# EAGLE library part CC8520 (library LPRF_Chipcon)
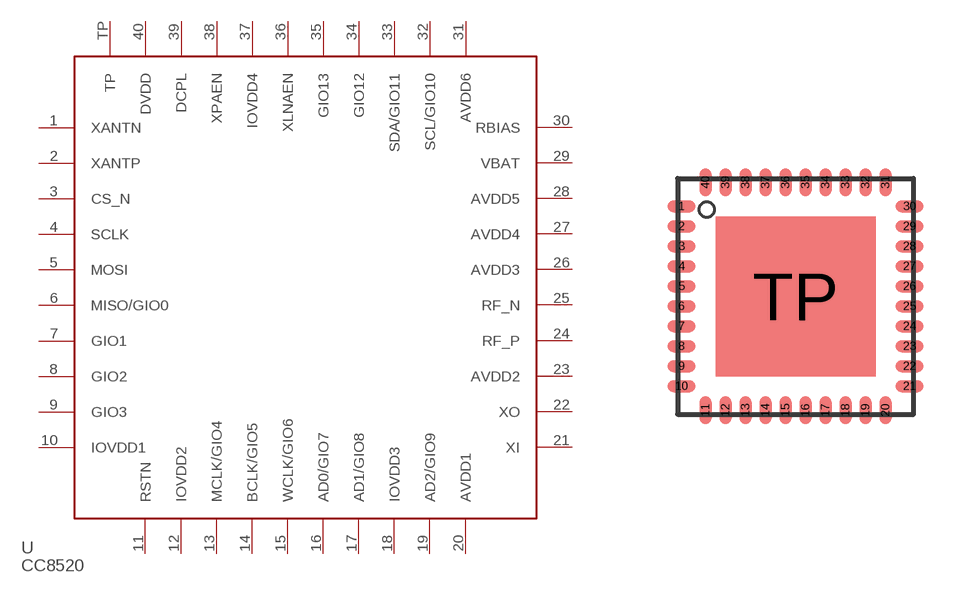
[diagram p0: symbol with the pads of RHA40; footprint RHA40]

Designator prefix -

## CC8520  [RHA40]
1  XANTN
2  XANTP
3  CS_N  in
4  SCLK
5  MOSI
6  MISO/GIO0
7  GIO1
8  GIO2
9  GIO3
10  IOVDD1  pwr
11  RSTN  in
12  IOVDD2  pwr
13  MCLK/GIO4
14  BCLK/GIO5
15  WCLK/GIO6
16  AD0/GIO7
17  AD1/GIO8
18  IOVDD3  pwr
19  AD2/GIO9
20  AVDD1  pwr
21  XI
22  XO
23  AVDD2  pwr
24  RF_P
25  RF_N
26  AVDD3  pwr
27  AVDD4  pwr
28  AVDD5  pwr
29  VBAT  in
30  RBIAS  out
31  AVDD6  pwr
32  SCL/GIO10
33  SDA/GIO11
34  GIO12
35  GIO13
36  XLNAEN
37  IOVDD4  pwr
38  XPAEN
39  DCPL  pwr
40  DVDD  pwr
TP  TP  pwr

## Footprint RHA40 (pad centres in mm)
smd 0.7 x 0.3: 1 -2.85,2.25; 2 -2.85,1.75; 3 -2.85,1.25; 4 -2.85,0.75; 5 -2.85,0.25; 6 -2.85,-0.25; 7 -2.85,-0.75; 8 -2.85,-1.25; 9 -2.85,-1.75; 10 -2.85,-2.25; 21 2.85,-2.25; 22 2.85,-1.75; 23 2.85,-1.25; 24 2.85,-0.75; 25 2.85,-0.25; 26 2.85,0.25; 27 2.85,0.75; 28 2.85,1.25; 29 2.85,1.75; 30 2.85,2.25
smd 0.3 x 0.7: 11 -2.25,-2.85; 12 -1.75,-2.85; 13 -1.25,-2.85; 14 -0.75,-2.85; 15 -0.25,-2.85; 16 0.25,-2.85; 17 0.75,-2.85; 18 1.25,-2.85; 19 1.75,-2.85; 20 2.25,-2.85; 31 2.25,2.85; 32 1.75,2.85; 33 1.25,2.85; 34 0.75,2.85; 35 0.25,2.85; 36 -0.25,2.85; 37 -0.75,2.85; 38 -1.25,2.85; 39 -1.75,2.85; 40 -2.25,2.85
smd 4 x 4: TP 0,0